# Altium schematic symbol library MC74HC1G32.SchLib: 1 symbol
Pins are listed as number, name and electrical type; pins without a type are passive.

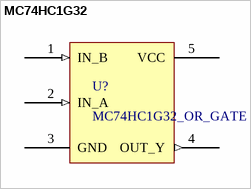
[diagram p0: symbol MC74HC1G32]

## MC74HC1G32
designator U?, comment MC74HC1G32_OR_GATE
OR GATE
footprint SOT-23-5 (SOT23, 5-Leads, Body 2,9x2,8mm (max), Pitch 0,95mm, IPC Medium Density)
pins: 1 IN_B (in), 2 IN_A (in), 3 GND (power), 4 OUT_Y (out), 5 VCC (power)